# Altium schematic symbol library Rnd IP Camera.SchLib: 20 symbols
Pins are listed as number, name and electrical type; pins without a type are passive.

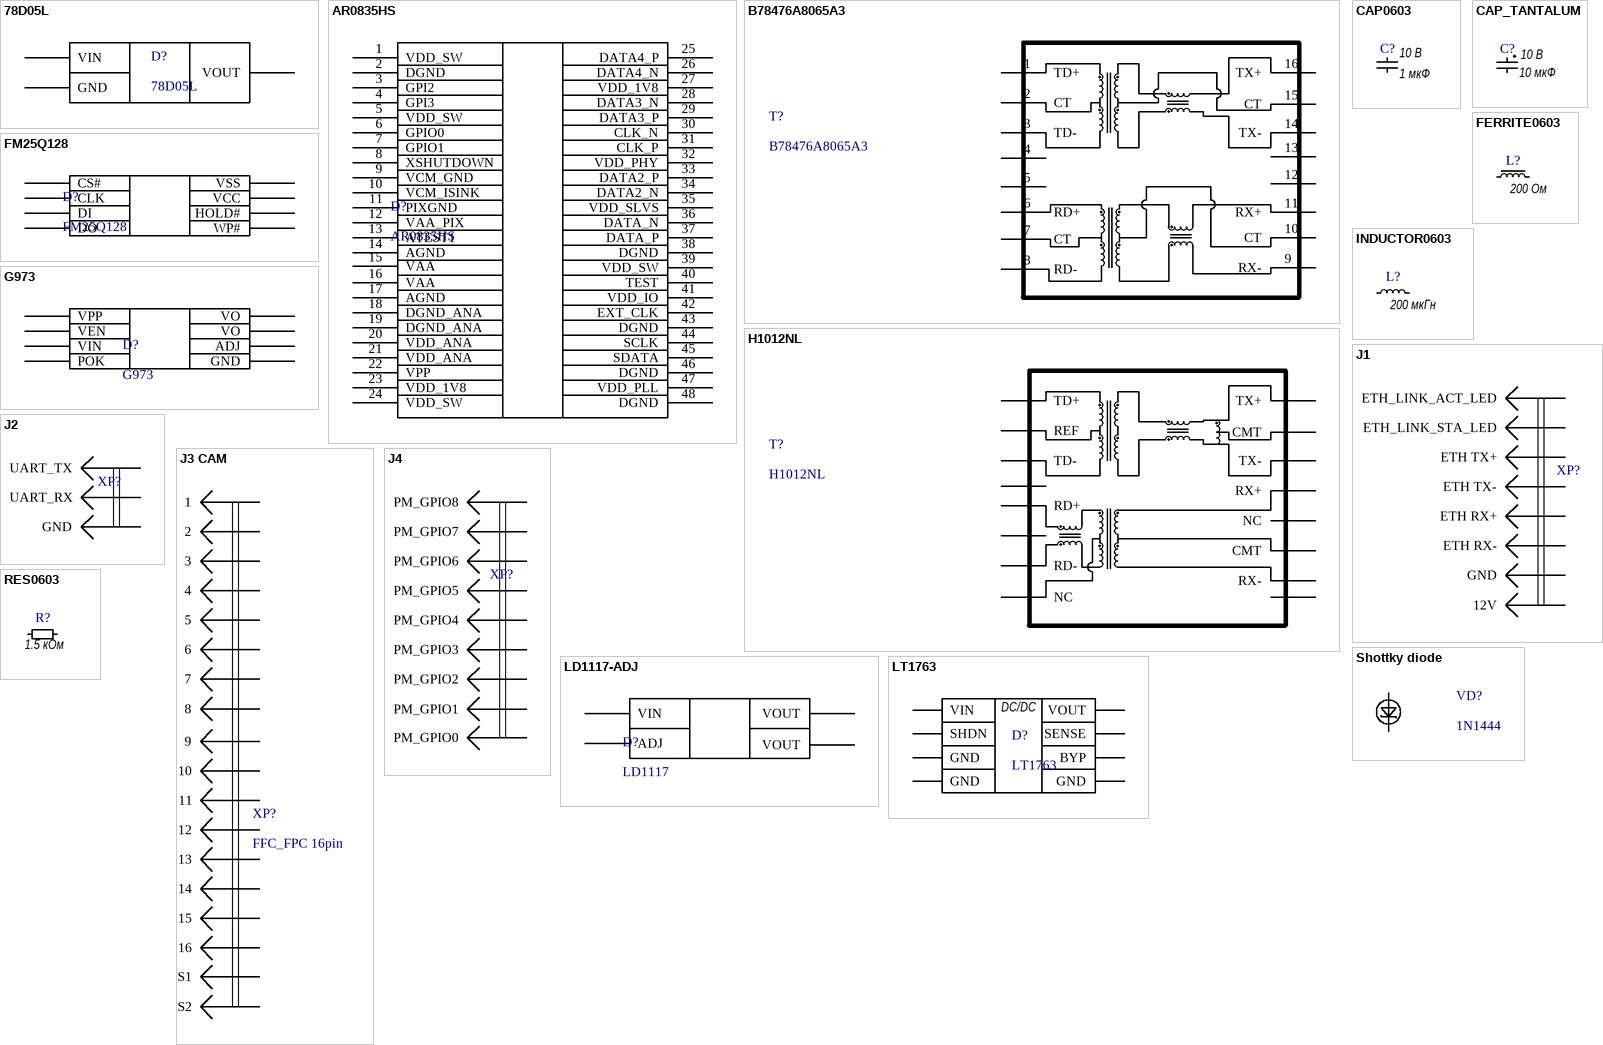
[diagram p0: symbols 78D05L to Shottky diode]

## 78D05L
designator D?
footprint TO-252
pins: 1 VIN, 2 GND, 3 VOUT

## AR0835HS
designator D?
pins: 1 VDD_SW, 2 DGND, 3 GPI2, 4 GPI3, 5 VDD_SW, 6 GPIO0, 7 GPIO1, 8 XSHUTDOWN, 9 VCM_GND, 10 VCM_ISINK, 11 PIXGND, 12 VAA_PIX, 13 ATEST1, 14 AGND, 15 VAA, 16 VAA, 17 AGND, 18 DGND_ANA, 19 DGND_ANA, 20 VDD_ANA, 21 VDD_ANA, 22 VPP, 23 VDD_1V8, 24 VDD_SW, 25 DATA4_P, 26 DATA4_N, 27 VDD_1V8, 28 DATA3_N, 29 DATA3_P, 30 CLK_N, 31 CLK_P, 32 VDD_PHY, 33 DATA2_P, 34 DATA2_N, 35 VDD_SLVS, 36 DATA_N, 37 DATA_P, 38 DGND, 39 VDD_SW, 40 TEST, 41 VDD_IO, 42 EXT_CLK, 43 DGND, 44 SCLK, 45 SDATA, 46 DGND, 47 VDD_PLL, 48 DGND

## B78476A8065A3
designator T?
footprint SOP-16
pins: 1, 1 TD+, 2 CT, 3 TD-, 4 NC, 5, 6 RD+, 7 CT, 8 RD-, 9 RX-, 10 CT, 11 RX+, 12 NC, 13 NC, 14 TX-, 15 CT, 16 TX+

## CAP0603
designator C?, comment Voltage: 10 В  (hidden comment: 1 мкФ)
Value: 1 мкФ
footprint CAP0603
pins: 1, 2

## CAP_TANTALUM
designator С?, comment Power: 10 В  (hidden comment: 10 мкФ)
Value: 10 мкФ
footprint TANTAL A
pins: 1, 2

## FERRITE0603
designator L?  value 200 Ом  (hidden comment: *)
footprint FERRITE0603
pins: 1, 2

## FM25Q128
designator D?
pins: 1 CS#, 2 DO, 3 WP#, 4 VSS, 5 DI, 6 CLK, 7 HOLD#, 8 VCC

## G973
designator D?
footprint SOP-8
pins: 1 GND, 2 ADJ, 3 VO, 4 VO, 5 VIN, 6 VPP, 7 POK, 8 VEN

## H1012NL
designator T?
footprint H1012NL
pins: 1, 1 RD+, 2 RD-, 3 NC, 4, 5 CMT, 6 RX-, 7 RX+, 8, 9 NC, 10 TX+, 11 TX-, 12 CMT, 13, 14 REF, 15 TD-, 16 TD+

## INDUCTOR0603
designator L?  value 200 мкГн  (hidden comment: *)
pins: 1, 2

## J1
designator XP?  (value not drawn)
pins: 1 ETH_LINK_ACT_LED, 2 ETH_LINK_STA_LED, 3 ETH TX+, 4 ETH TX-, 5 ETH RX+, 6 ETH RX-, 7 GND, 8 12V

## J2
designator XP?  (value not drawn)
footprint J2
pins: 1 UART_TX, 2 UART_RX, 3 GND

## J3 CAM
designator XP?, comment FFC_FPC 16pin
footprint FFC_FPC 16pin
pins: 1, 2, 3, 4, 5, 6, 7, 8, 9, 10, 11, 12, 13, 14, 15, 16, S1, S2

## J4
designator XP?  (value not drawn)
footprint J4
pins: 1 PM_GPIO8, 2 PM_GPIO7, 3 PM_GPIO6, 4 PM_GPIO5, 5 PM_GPIO4, 6 PM_GPIO3, 7 PM_GPIO2, 8 PM_GPIO1, 9 PM_GPIO0

## LD1117-ADJ
designator D?, comment LD1117
footprint SOT-223
pins: 1 ADJ, 2 VOUT, 3 VIN, 4 VOUT

## LT1763
designator D?
footprint SOIC-8
pins: 1 VOUT, 2 SENSE, 3 GND, 4 BYP, 5 SHDN, 6 GND, 7 GND, 8 VIN
text: DC/DC

## RES0603
designator R?  value 1.5 кОм  (hidden comment: *)
footprint RES0603
pins: 1, 2

## Shottky diode
designator VD?, comment 1N1444
footprint SOD-323
pins: 1, 2

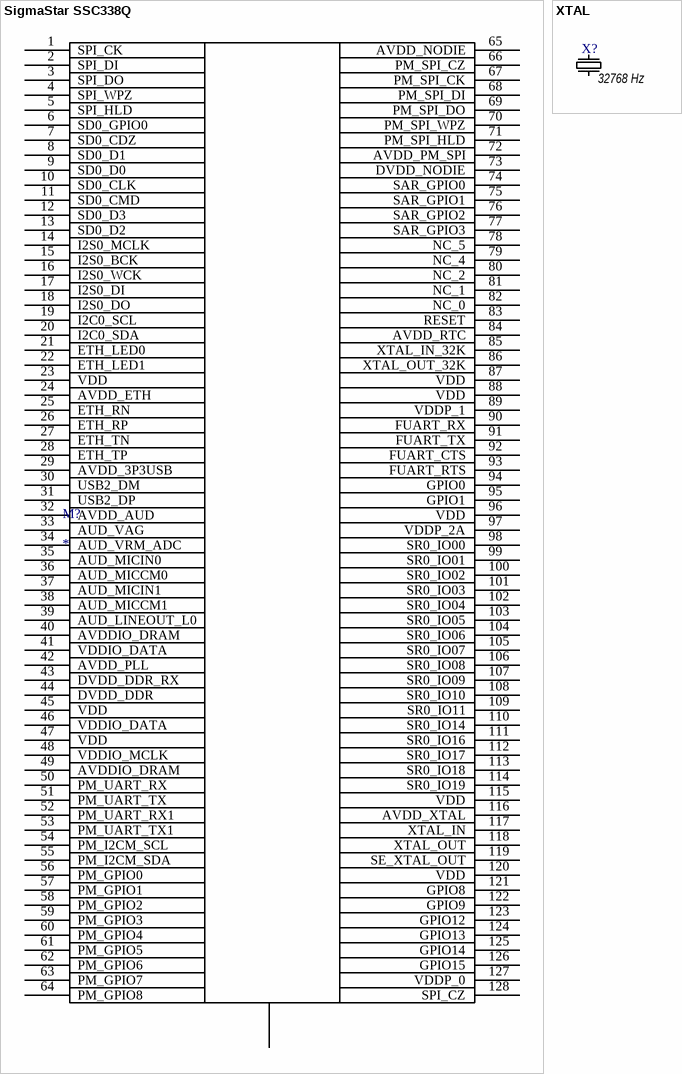
[diagram p1: symbols SigmaStar SSC338Q to XTAL]

## SigmaStar SSC338Q
designator M?
footprint SSC338Q
pins: 1 SPI_CK, 2 SPI_DI, 3 SPI_DO, 4 SPI_WPZ, 5 SPI_HLD, 6 SD0_GPIO0, 7 SD0_CDZ, 8 SD0_D1, 9 SD0_D0, 10 SD0_CLK, 11 SD0_CMD, 12 SD0_D3, 13 SD0_D2, 14 I2S0_MCLK, 15 I2S0_BCK, 16 I2S0_WCK, 17 I2S0_DI, 18 I2S0_DO, 19 I2C0_SCL, 20 I2C0_SDA, 21 ETH_LED0, 22 ETH_LED1, 23 VDD, 24 AVDD_ETH, 25 ETH_RN, 26 ETH_RP, 27 ETH_TN, 28 ETH_TP, 29 AVDD_3P3USB, 30 USB2_DM, 31 USB2_DP, 32 AVDD_AUD, 33 AUD_VAG, 34 AUD_VRM_ADC, 35 AUD_MICIN0, 36 AUD_MICCM0, 37 AUD_MICIN1, 38 AUD_MICCM1, 39 AUD_LINEOUT_L0, 40 AVDDIO_DRAM, 41 VDDIO_DATA, 42 AVDD_PLL, 43 DVDD_DDR_RX, 44 DVDD_DDR, 45 VDD, 46 VDDIO_DATA, 47 VDD, 48 VDDIO_MCLK, 49 AVDDIO_DRAM, 50 PM_UART_RX, 51 PM_UART_TX, 52 PM_UART_RX1, 53 PM_UART_TX1, 54 PM_I2CM_SCL, 55 PM_I2CM_SDA, 56 PM_GPIO0, 57 PM_GPIO1, 58 PM_GPIO2, 59 PM_GPIO3, 60 PM_GPIO4, 61 PM_GPIO5, 62 PM_GPIO6, 63 PM_GPIO7, 64 PM_GPIO8, 65 AVDD_NODIE, 66 PM_SPI_CZ, 67 PM_SPI_CK, 68 PM_SPI_DI, 69 PM_SPI_DO, 70 PM_SPI_WPZ, 71 PM_SPI_HLD, 72 AVDD_PM_SPI, 73 DVDD_NODIE, 74 SAR_GPIO0, 75 SAR_GPIO1, 76 SAR_GPIO2, 77 SAR_GPIO3, 78 NC_5, 79 NC_4, 80 NC_2, 81 NC_1, 82 NC_0, 83 RESET, 84 AVDD_RTC, 85 XTAL_IN_32K, 86 XTAL_OUT_32K, 87 VDD, 88 VDD, 89 VDDP_1, 90 FUART_RX, 91 FUART_TX, 92 FUART_CTS, 93 FUART_RTS, 94 GPIO0, 95 GPIO1, 96 VDD, 97 VDDP_2A, 98 SR0_IO00, 99 SR0_IO01, 100 SR0_IO02, 101 SR0_IO03, 102 SR0_IO04, 103 SR0_IO05, 104 SR0_IO06, 105 SR0_IO07, 106 SR0_IO08, 107 SR0_IO09, 108 SR0_IO10, 109 SR0_IO11, 110 SR0_IO14, 111 SR0_IO16, 112 SR0_IO17, 113 SR0_IO18, 114 SR0_IO19, 115 VDD, 116 AVDD_XTAL, 117 XTAL_IN, 118 XTAL_OUT, 119 SE_XTAL_OUT, 120 VDD, 121 GPIO8, 122 GPIO9, 123 GPIO12, 124 GPIO13, 125 GPIO14, 126 GPIO15, 127 VDDP_0, 128 SPI_CZ, 129 GND

## XTAL
designator X?  value 32768 Hz  (hidden comment: *)
pins: 1, 2